# EAGLE library part AD633 (library Analog Devices)
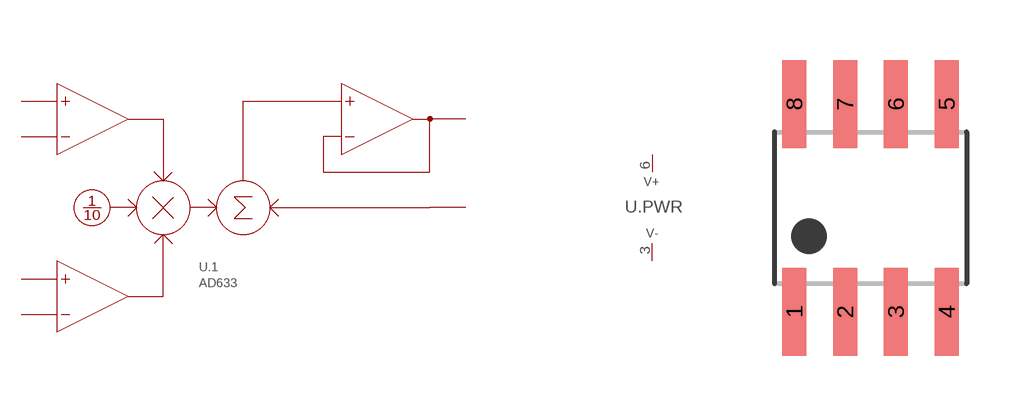
[diagram p10: symbol with the pads of SOIC8; footprint SOIC8]

Designator prefix U; gates .1=AD633 .PWR=AD633_PWR

## AD633  [SOIC8]
1  .1:Y1  in
2  .1:Y2  in
3  .PWR:V-  pwr
4  .1:Z  in
5  .1:W  out
6  .PWR:V+  pwr
7  .1:X1  in
8  .1:X2  in

## Footprint SOIC8 (pad centres in mm)
smd 0.6 x 2.2: 1 -1.905,-2.6; 2 -0.635,-2.6; 3 0.635,-2.6; 4 1.905,-2.6; 5 1.905,2.6; 6 0.635,2.6; 7 -0.635,2.6; 8 -1.905,2.6